# Altium schematic symbol library Schlib1.SchLib: 19 symbols
Pins are listed as number, name and electrical type; pins without a type are passive.

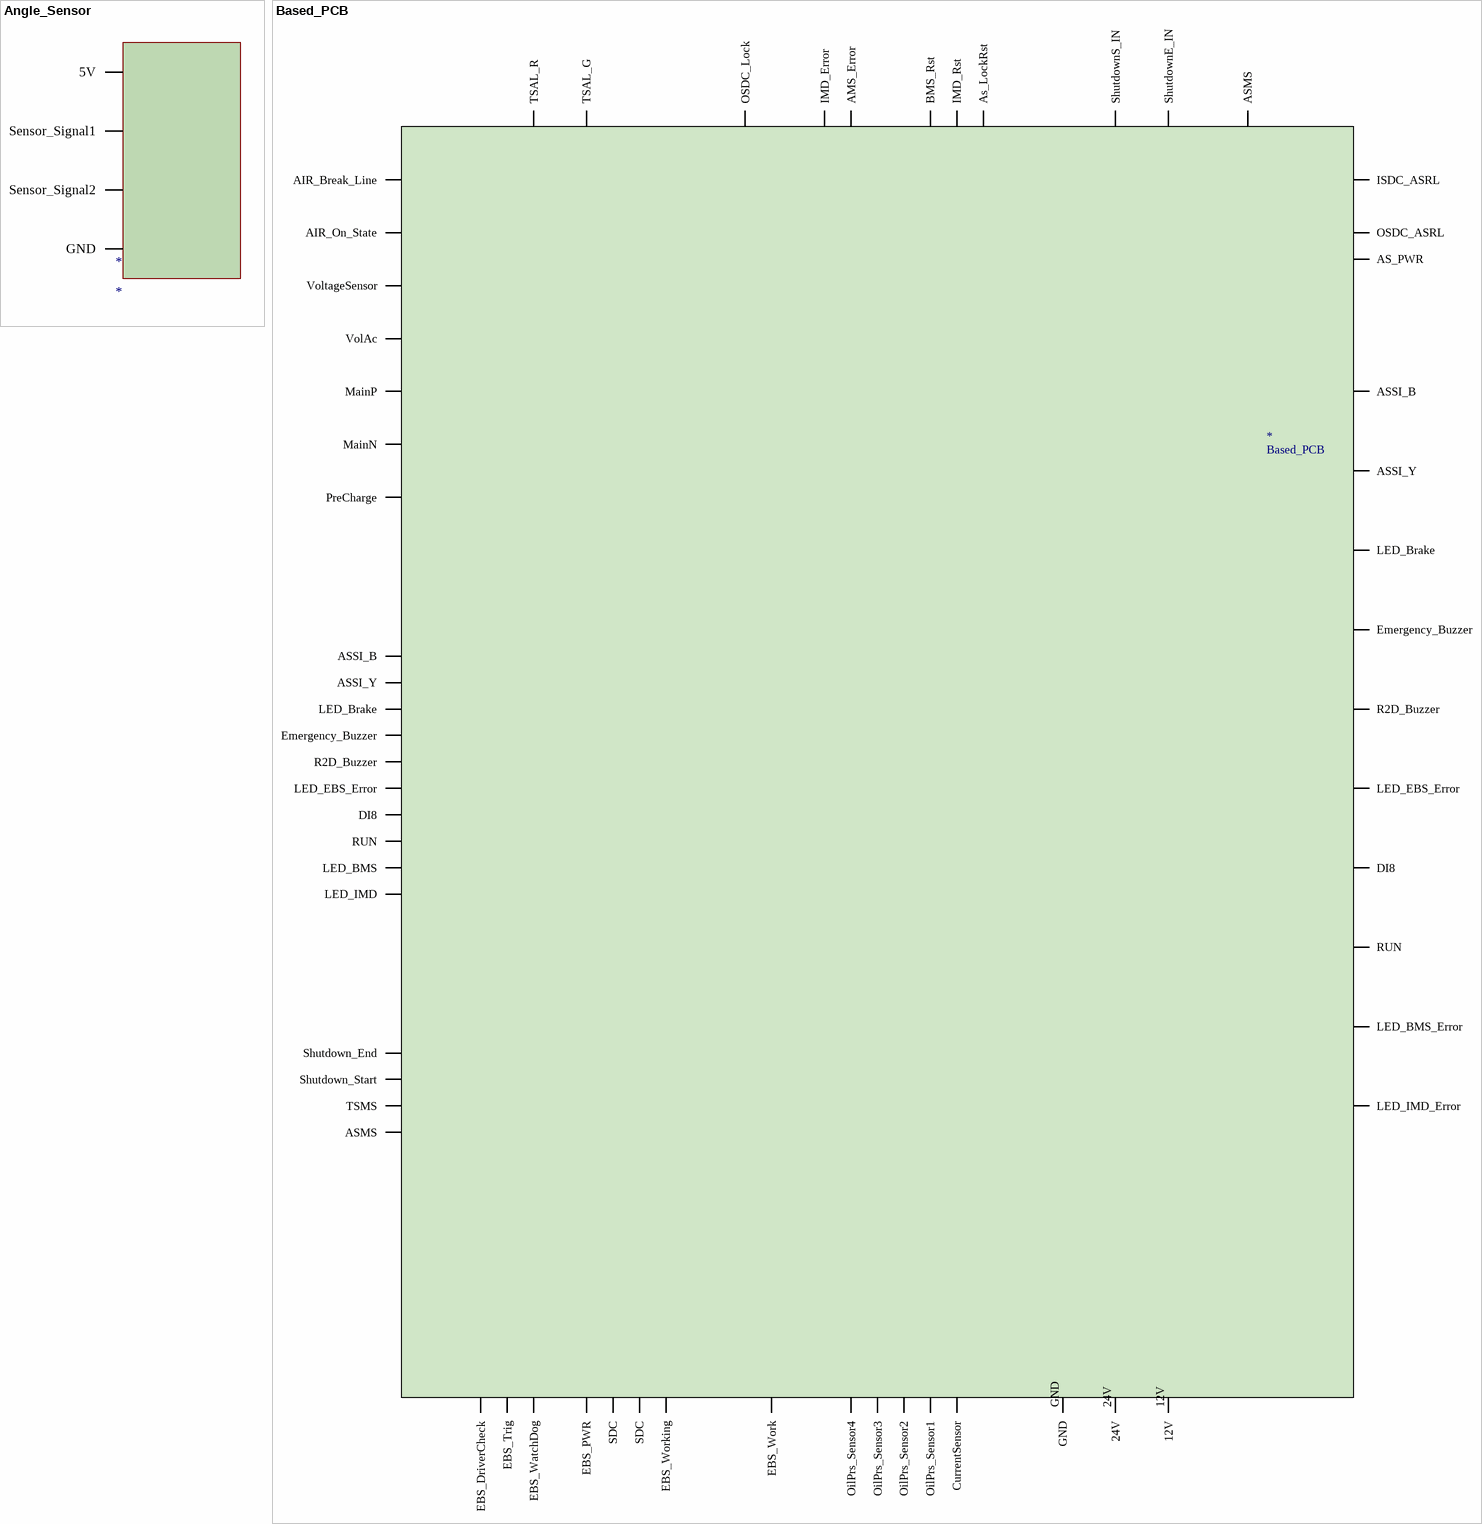
[diagram p0: symbols Angle_Sensor to Based_PCB]

## Angle_Sensor
designator *
pins: ?1 5V, ?2 Sensor_Signal1, ?3 Sensor_Signal2, ?4 GND

## Based_PCB
designator *
pins: 12V, 24V, ?1 SDC, ?2 SDC, ?3 EBS_DriverCheck, ?4 EBS_Trig, ?5 EBS_WatchDog, ?6 EBS_Working, ?7 EBS_Work, ?8 CurrentSensor, ?9 OilPrs_Sensor1, ?10 OilPrs_Sensor2, ?11 AIR_Break_Line, ?12 AIR_On_State, ?13 VoltageSensor, ?14 VolAc, ?15 MainP, ?16 MainN, ?17 PreCharge, ?18 ASSI_B, ?19 ASSI_Y, ?20 LED_Brake, ?21 Emergency_Buzzer, ?22 R2D_Buzzer, ?23 LED_EBS_Error, ?24 DI8, ?25 RUN, ?26 TSAL_R, ?27 TSAL_G, ?28 IMD_Error, ?29 AMS_Error, ?30 OSDC_Lock, ?31 IMD_Rst, ?32 BMS_Rst, ?33 ASMS, ?34 AS_PWR, ?35 ISDC_ASRL, ?36 OSDC_ASRL, ?37 ASSI_B, ?38 ASSI_Y, ?39 LED_Brake, ?40 Emergency_Buzzer, ?41 R2D_Buzzer, ?42 LED_EBS_Error, ?43 DI8, ?44 RUN, ?45 EBS_PWR, ?46 ASMS, ?47 TSMS, ?48 OilPrs_Sensor3, ?49 OilPrs_Sensor4, ?50 ShutdownS_IN, ?51 ShutdownE_IN, ?52 Shutdown_Start, ?53 Shutdown_End, ?54 LED_BMS_Error, ?55 LED_IMD_Error, ?56 LED_BMS, ?57 LED_IMD, ?58 As_LockRst, GND

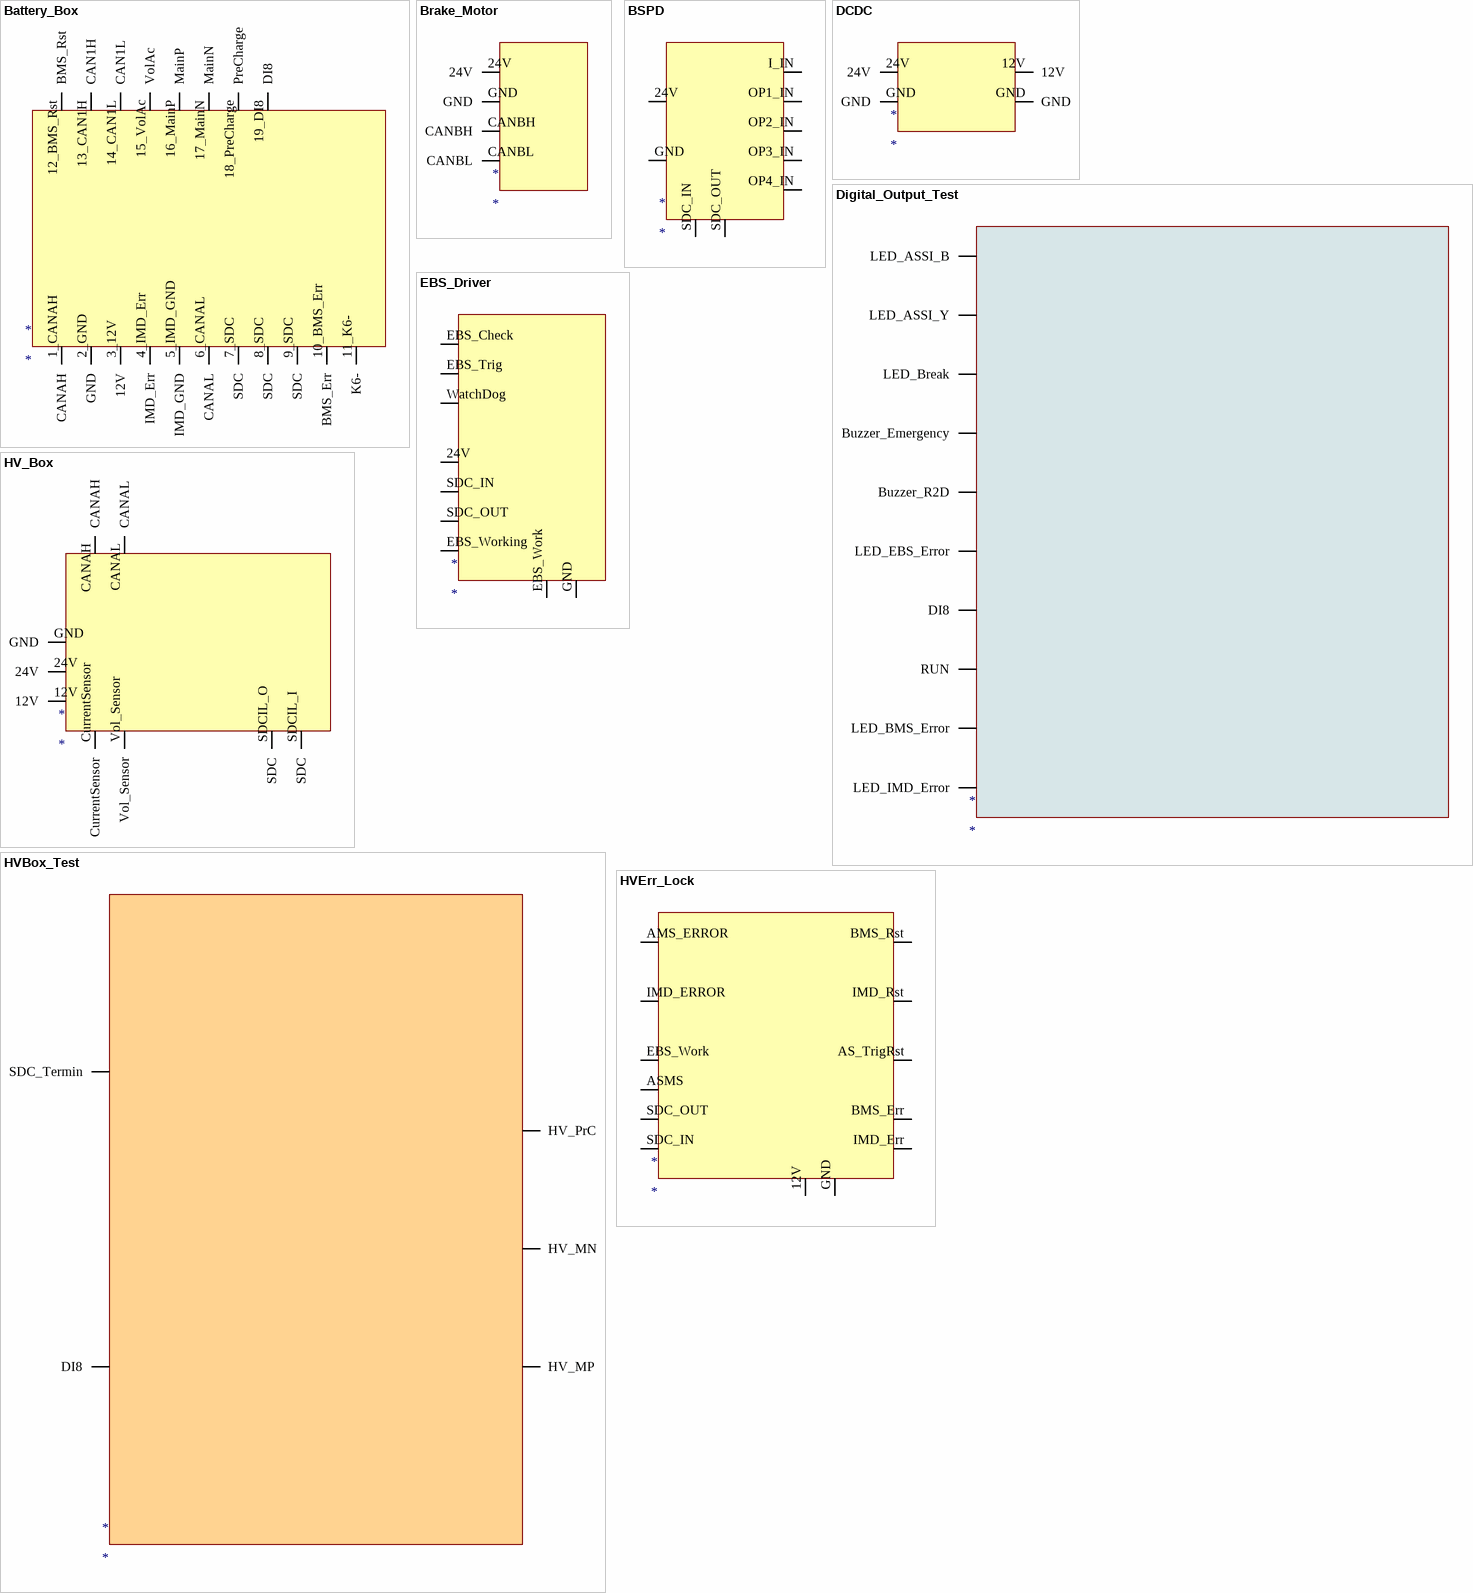
[diagram p1: symbols Battery_Box to HVErr_Lock]

## Battery_Box
designator *
pins: 1_CANAH CANAH, 2_GND GND, 3_12V 12V, 4_IMD_Err IMD_Err, 5_IMD_GND IMD_GND, 6_CANAL CANAL, 7_SDC SDC, 8_SDC SDC, 9_SDC SDC, 10_BMS_Err BMS_Err, 11_K6- K6-, 12_BMS_Rst BMS_Rst, 13_CAN1H CAN1H, 14_CAN1L CAN1L, 15_VolAc VolAc, 16_MainP MainP, 17_MainN MainN, 18_PreCharge PreCharge, 19_DI8 DI8

## Brake_Motor
designator *
pins: 24V, CANBH, CANBL, GND

## BSPD
designator *
pins: 24V, GND, I_IN, OP1_IN, OP2_IN, OP3_IN, OP4_IN, SDC_IN, SDC_OUT

## DCDC
designator *
pins: 12V, 24V, GND, GND

## Digital_Output_Test
designator *
pins: ?1 LED_ASSI_B, ?2 LED_ASSI_Y, ?3 LED_Break, ?4 Buzzer_Emergency, ?5 Buzzer_R2D, ?6 LED_EBS_Error, ?7 DI8, ?8 RUN, ?9 LED_BMS_Error, ?10 LED_IMD_Error

## EBS_Driver
designator *
pins: 24V, EBS_Check, EBS_Trig, EBS_Work, EBS_Working, GND, SDC_IN, SDC_OUT, WatchDog

## HV_Box
designator *
pins: 12V, 24V, CANAH, CANAL, CurrentSensor, GND, SDCIL_I SDC, SDCIL_O SDC, Vol_Sensor

## HVBox_Test
designator *
pins: ?1 SDC_Termin, ?2 DI8, ?3 HV_MP, ?4 HV_MN, ?5 HV_PrC

## HVErr_Lock
designator *
pins: 12V, AMS_ERROR, AS_TrigRst, ASMS, BMS_Err, BMS_Rst, EBS_Work, GND, IMD_Err, IMD_ERROR, IMD_Rst, SDC_IN, SDC_OUT

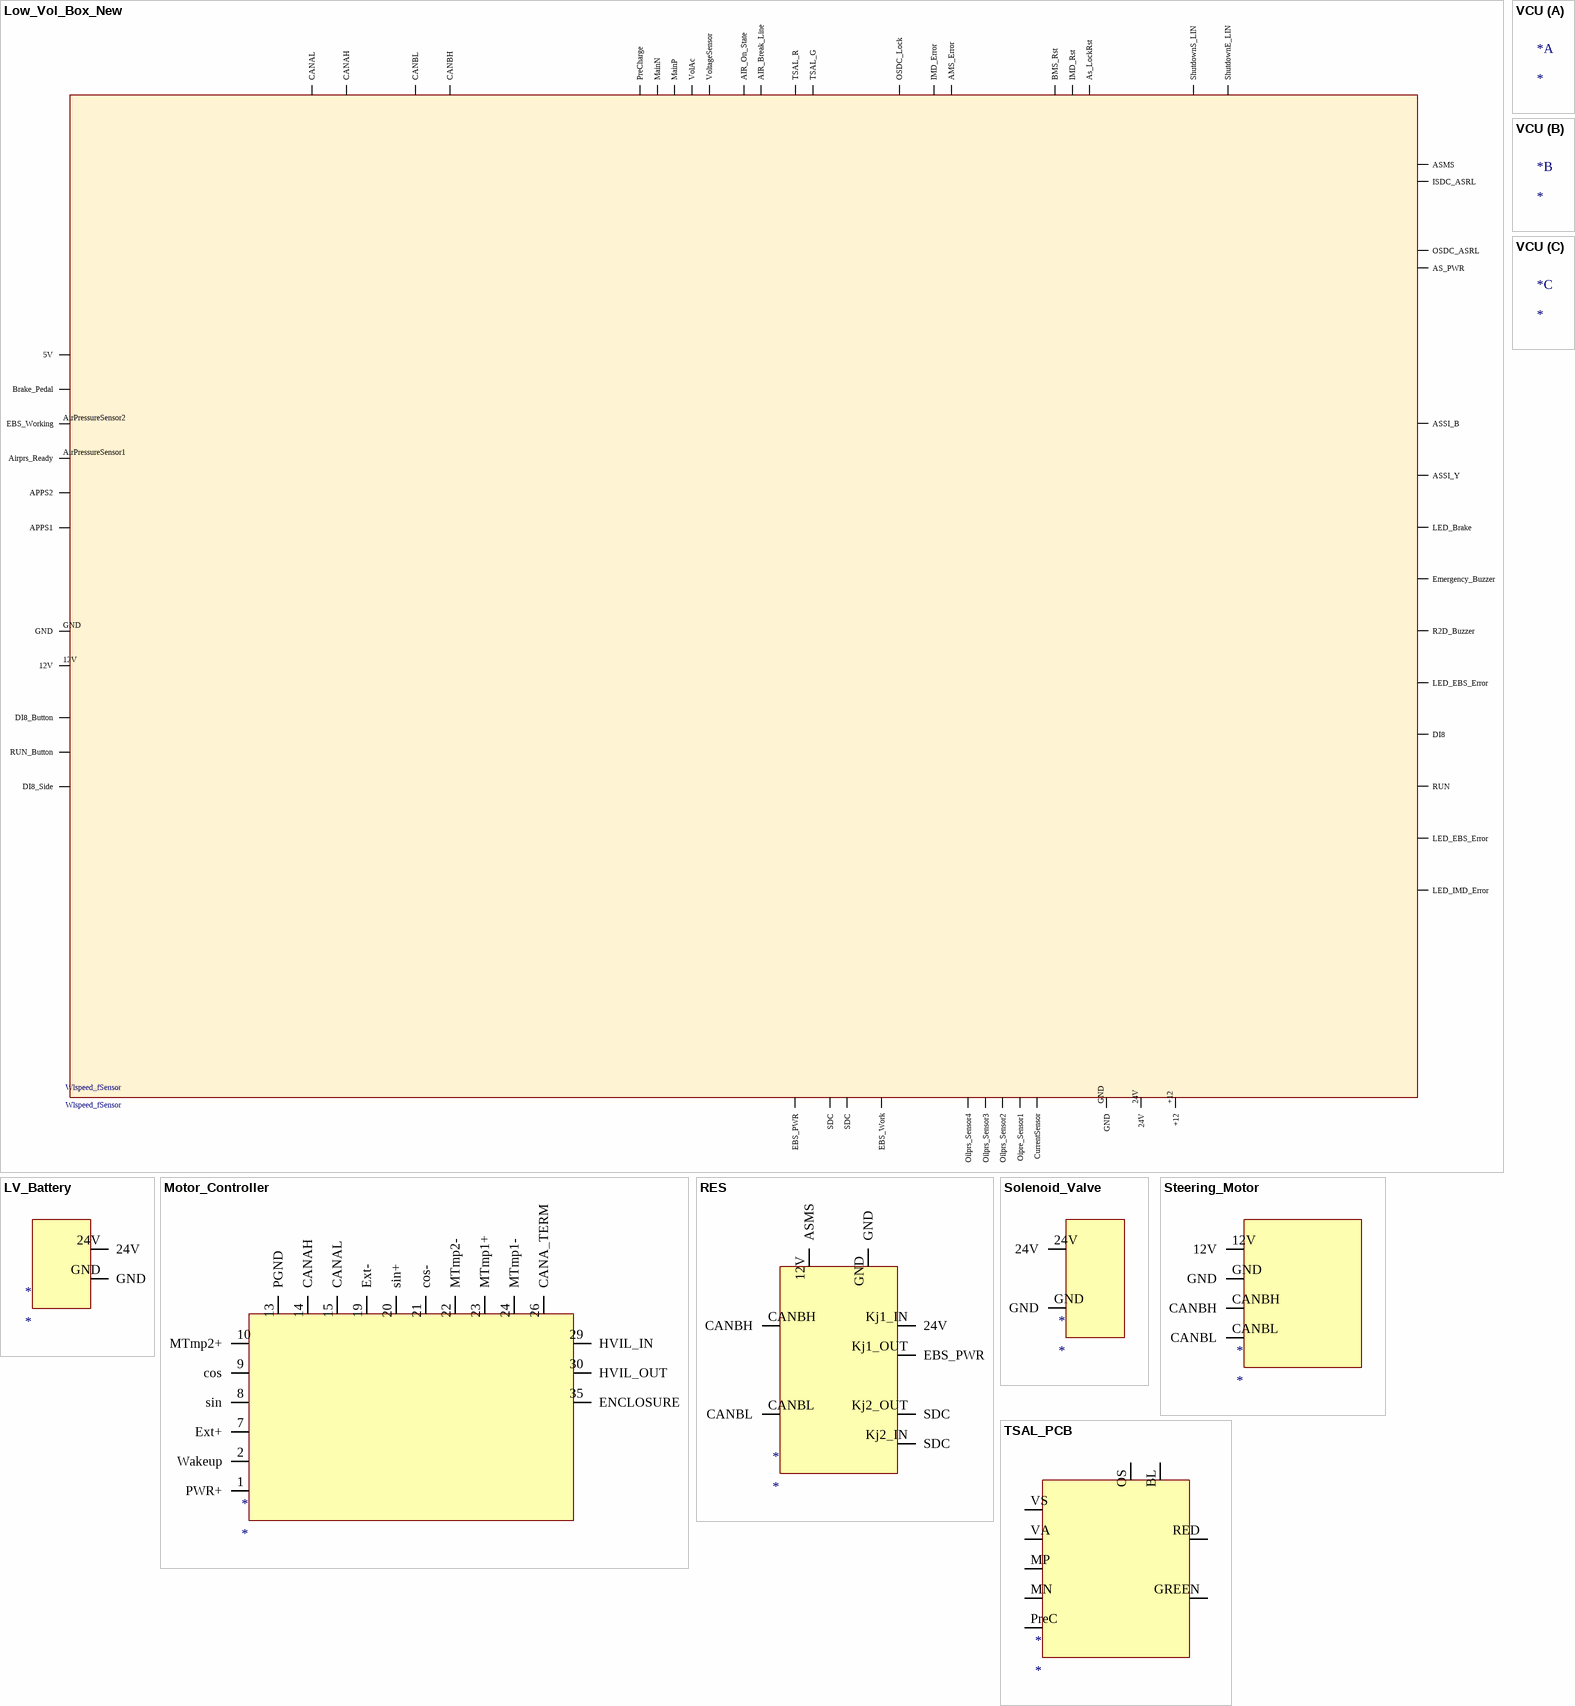
[diagram p2: symbols Low_Vol_Box_New to VCU]

## Low_Vol_Box_New
designator Wlspeed_fSensor, comment Wlspeed_fSensor
pins: 12V, 24V, +12, ?1 Brake_Pedal, ?2 APPS2, ?3 APPS1, ?4 DI8_Button, ?5 RUN_Button, ?6 CANAL, ?7 CANAH, ?8 CANBL, ?9 CANBH, ?10 PreCharge, ?11 MainN, ?12 MainP, ?13 VolAc, ?14 VoltageSensor, ?15 AIR_On_State, ?16 AIR_Break_Line, ?17 TSAL_R, ?18 TSAL_G, ?19 OSDC_Lock, ?20 AMS_Error, ?21 IMD_Error, ?22 As_LockRst, ?23 BMS_Rst, ?24 ASMS, ?25 ISDC_ASRL, ?26 OSDC_ASRL, ?27 AS_PWR, ?28 ASSI_B, ?29 ASSI_Y, ?30 LED_Brake, ?31 Emergency_Buzzer, ?32 R2D_Buzzer, ?33 LED_EBS_Error, ?34 DI8, ?35 RUN, ?36 EBS_PWR, ?37 SDC, ?38 SDC, ?39 EBS_Work, ?40 Oilprs_Sensor3, ?41 Oipre_Sensor1, ?42 CurrentSensor, ?43 5V, ?44 IMD_Rst, ?45 DI8_Side, ?46 Oilprs_Sensor2, ?47 Oilprs_Sensor4, ?48 ShutdownS_LIN, ?49 ShutdownE_LIN, ?50 LED_EBS_Error, ?51 LED_IMD_Error, AirPressureSensor1 Airprs_Ready, AirPressureSensor2 EBS_Working, GND, GND

## LV_Battery
designator *
pins: 24V, GND

## Motor_Controller
designator *
pins: 1 PWR+, 2 Wakeup, 7 Ext+, 8 sin, 9 cos, 10 MTmp2+, 13 PGND, 14 CANAH, 15 CANAL, 19 Ext-, 20 sin+, 21 cos-, 22 MTmp2-, 23 MTmp1+, 24 MTmp1-, 26 CANA_TERM, 29 HVIL_IN, 30 HVIL_OUT, 35 ENCLOSURE

## RES
designator *
pins: 12V ASMS, CANBH, CANBL, GND, Kj1_IN 24V, Kj1_OUT EBS_PWR, Kj2_IN SDC, Kj2_OUT SDC

## Solenoid_Valve
designator *
pins: 24V, GND

## Steering_Motor
designator *
pins: 12V, CANBH, CANBL, GND

## TSAL_PCB
designator *
pins: BL, GREEN, MN, MP, OS, PreC, RED, VA, VS

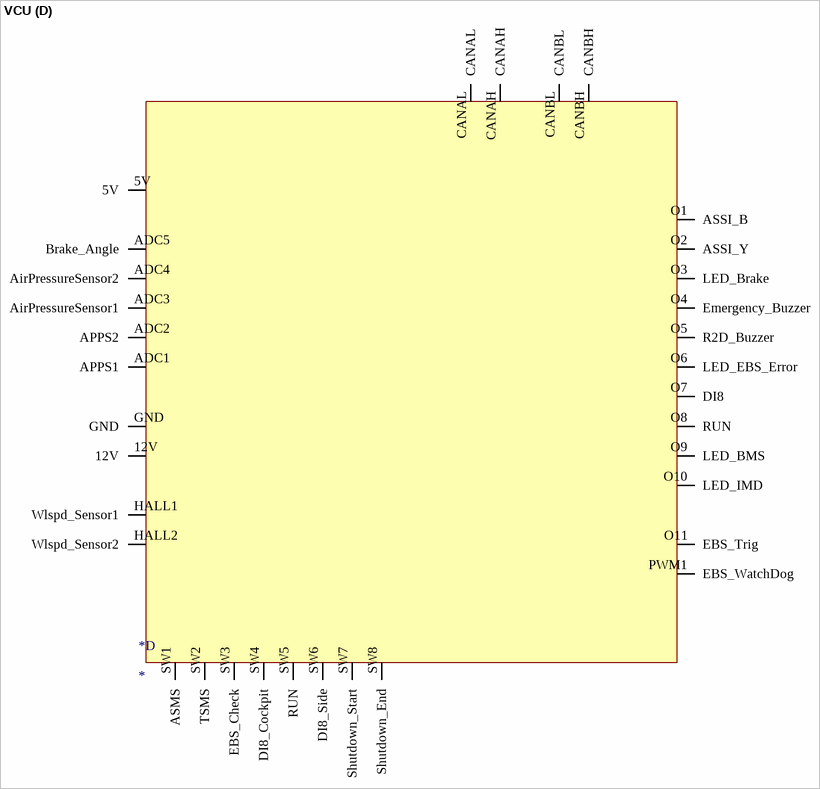
[diagram p3: symbol VCU]

## VCU
designator *
part D pins: 5V, 12V, ADC1 APPS1, ADC2 APPS2, ADC3 AirPressureSensor1, ADC4 AirPressureSensor2, ADC5 Brake_Angle, CANAH, CANAL, CANBH, CANBL, GND, HALL1 Wlspd_Sensor1, HALL2 Wlspd_Sensor2, O1 ASSI_B, O2 ASSI_Y, O3 LED_Brake, O4 Emergency_Buzzer, O5 R2D_Buzzer, O6 LED_EBS_Error, O7 DI8, O8 RUN, O9 LED_BMS, O10 LED_IMD, O11 EBS_Trig, PWM1 EBS_WatchDog, SW1 ASMS, SW2 TSMS, SW3 EBS_Check, SW4 DI8_Cockpit, SW5 RUN, SW6 DI8_Side, SW7 Shutdown_Start, SW8 Shutdown_End